# Altium footprint library TLP521-1.PcbLib: 1 footprints
Each footprint in its own frame and in the unit in brackets; x right, y up, seen from the top. Pads: shape width x height; smd on the part's side, far side on the other; paste and mask are expansions set on the pad; w line width, h text height; cw(c..) or ccw(c..) is an arc to the next point about the centre after c.
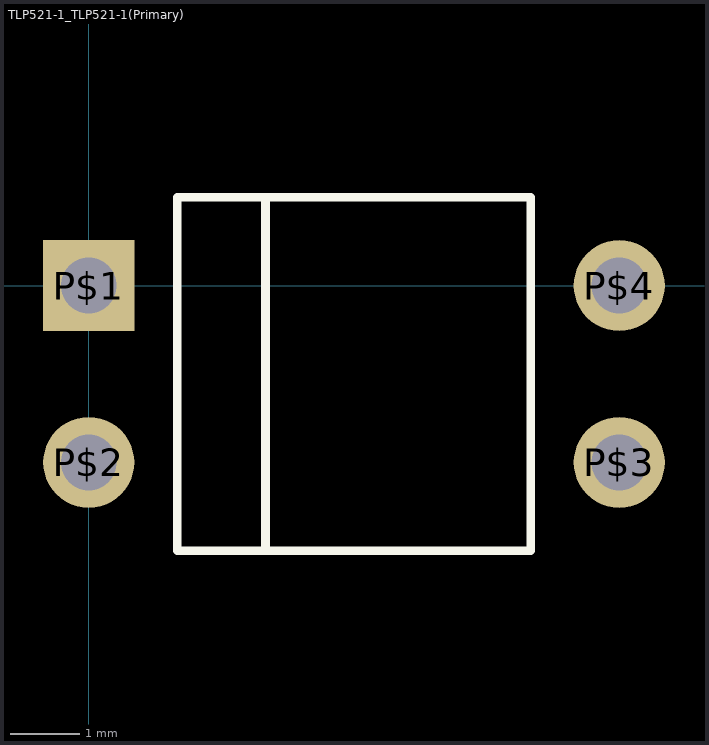
[diagram p0: the footprint, top view; thin cyan lines are the x and y axes]

## TLP521-1_TLP521-1(Primary) [mm]
pads (4):
  rect 1.308x1.308 hole 0.8 mask-25.4: P$1(0,0)
  round 1.308 hole 0.8 mask-25.4: P$2(0,-2.54) P$3(7.62,-2.54) P$4(7.62,0)
Top Overlay:
  lines w0.127: 2.54,-3.81 2.54,1.27 ; 2.54,-3.81 6.35,-3.81 6.35,1.27 2.54,1.27 ; 2.54,-3.81 1.27,-3.81 1.27,1.27 2.54,1.27
Top Solder:
  region: 7.62,0.761 7.423,0.735 7.24,0.659 7.082,0.538 6.961,0.38 6.885,0.197 6.859,0 6.885,-0.197 6.961,-0.38 7.082,-0.538 7.24,-0.659 7.423,-0.735 7.62,-0.761 7.817,-0.735 8,-0.659 8.158,-0.538 8.279,-0.38 8.355,-0.197 8.381,0 8.355,0.197 8.279,0.38 8.158,0.538 8,0.659 7.817,0.735
  region: 7.62,-1.779 7.423,-1.805 7.24,-1.881 7.082,-2.002 6.961,-2.16 6.885,-2.343 6.859,-2.54 6.885,-2.737 6.961,-2.92 7.082,-3.078 7.24,-3.199 7.423,-3.275 7.62,-3.301 7.817,-3.275 8,-3.199 8.158,-3.078 8.279,-2.92 8.355,-2.737 8.381,-2.54 8.355,-2.343 8.279,-2.16 8.158,-2.002 8,-1.881 7.817,-1.805
  region: 0,-1.779 -0.197,-1.805 -0.38,-1.881 -0.538,-2.002 -0.659,-2.16 -0.735,-2.343 -0.761,-2.54 -0.735,-2.737 -0.659,-2.92 -0.538,-3.078 -0.38,-3.199 -0.197,-3.275 0,-3.301 0.197,-3.275 0.38,-3.199 0.538,-3.078 0.659,-2.92 0.735,-2.737 0.761,-2.54 0.735,-2.343 0.659,-2.16 0.538,-2.002 0.38,-1.881 0.197,-1.805
  region: -0.754,-0.754 0.754,-0.754 0.754,0.754 -0.754,0.754
Bottom Solder:
  region: 7.62,0.761 7.423,0.735 7.24,0.659 7.082,0.538 6.961,0.38 6.885,0.197 6.859,0 6.885,-0.197 6.961,-0.38 7.082,-0.538 7.24,-0.659 7.423,-0.735 7.62,-0.761 7.817,-0.735 8,-0.659 8.158,-0.538 8.279,-0.38 8.355,-0.197 8.381,0 8.355,0.197 8.279,0.38 8.158,0.538 8,0.659 7.817,0.735
  region: 7.62,-1.779 7.423,-1.805 7.24,-1.881 7.082,-2.002 6.961,-2.16 6.885,-2.343 6.859,-2.54 6.885,-2.737 6.961,-2.92 7.082,-3.078 7.24,-3.199 7.423,-3.275 7.62,-3.301 7.817,-3.275 8,-3.199 8.158,-3.078 8.279,-2.92 8.355,-2.737 8.381,-2.54 8.355,-2.343 8.279,-2.16 8.158,-2.002 8,-1.881 7.817,-1.805
  region: 0,-1.779 -0.197,-1.805 -0.38,-1.881 -0.538,-2.002 -0.659,-2.16 -0.735,-2.343 -0.761,-2.54 -0.735,-2.737 -0.659,-2.92 -0.538,-3.078 -0.38,-3.199 -0.197,-3.275 0,-3.301 0.197,-3.275 0.38,-3.199 0.538,-3.078 0.659,-2.92 0.735,-2.737 0.761,-2.54 0.735,-2.343 0.659,-2.16 0.538,-2.002 0.38,-1.881 0.197,-1.805
  region: -0.754,-0.754 0.754,-0.754 0.754,0.754 -0.754,0.754